# EAGLE library part SERIAL-FLASH-MEM-DUAL/QUAD-IO (library FlashPCB_ICs)
SERIAL-FLASH-MEM-DUAL/QUAD-IO - Serial Flash Memory with Standard, Dual, and Quad IO SPI Technical Specifications: Memory Interface: SPI - STD, DUAL, QUAD I/O Component Search: W25Q80EWSNIG <https://www.flashpcb.com/components> Datasheet: 1.8V 8M-BIT SERIAL FLASH MEMORY WITH DUAL/QUAD SPI & QPI <https://www.winbond.com/resource-files/w25q80ew%20revi%2008222017%20sfdp.pdf>
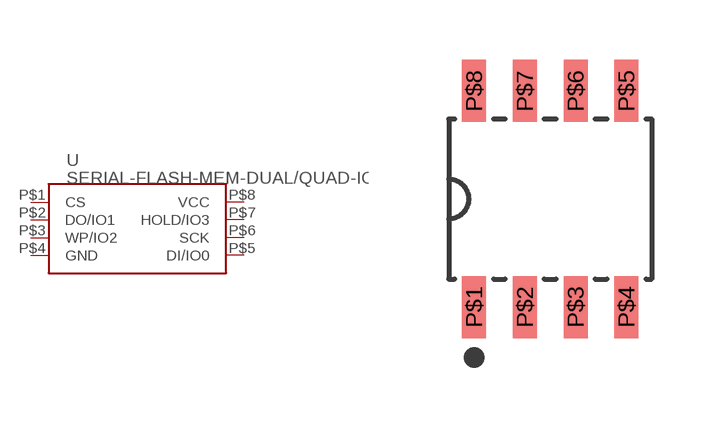
[diagram p78: symbol with the pads of SOIC-8-150MIL-3.9MM; footprint SOIC-8-150MIL-3.9MM]

Designator prefix -

## SERIAL-FLASH-MEM-DUAL/QUAD-IOSOIC-8  [SOIC-8-150MIL-3.9MM]
P$1  CS
P$2  DO/IO1
P$3  WP/IO2
P$4  GND
P$5  DI/IO0
P$6  SCK
P$7  HOLD/IO3
P$8  VCC  oc

## Footprint SOIC-8-150MIL-3.9MM (pad centres in mm)
smd 0.6 x 1.55: P$1 -1.905,-2.7; P$2 -0.635,-2.7; P$3 0.635,-2.7; P$4 1.905,-2.7; P$5 1.905,2.7; P$6 0.635,2.7; P$7 -0.635,2.7; P$8 -1.905,2.7